# EAGLE library part LM1972M/NOPB (library Fancy_InternetRadio)
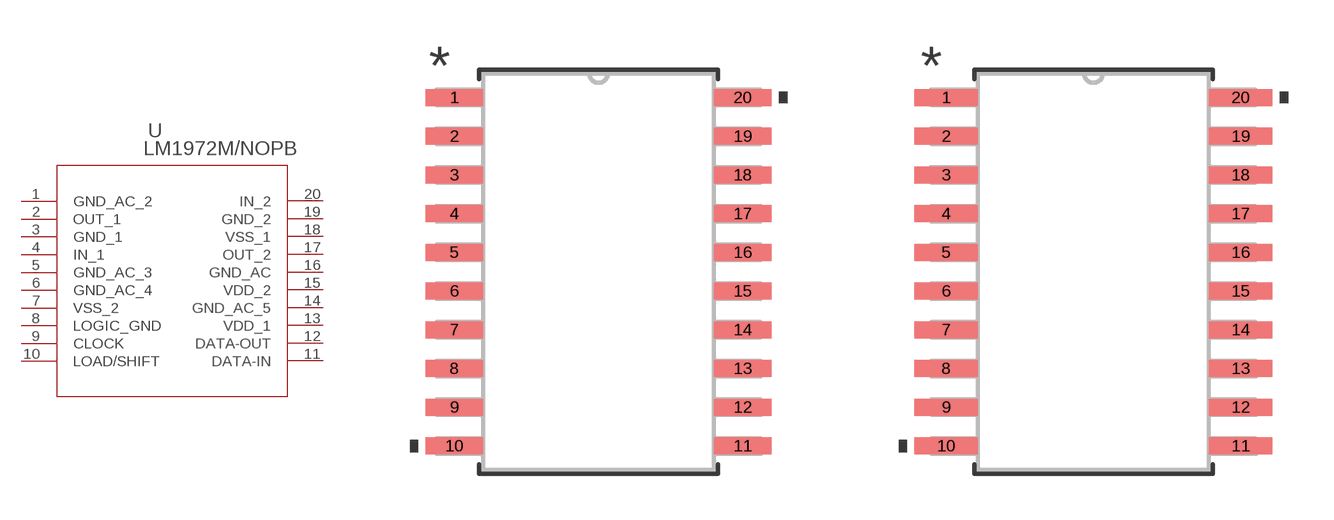
[diagram p5: symbol with the pads of M20B_TEX; footprints M20B_TEX, M20B_TEX-M]

Designator prefix U

## LM1972M/NOPB (BUILT_BY: EMA_UL_Team; MANUFACTURER_PART_NUMBER: LM1972M/NOPB; SOURCELIBRARY: National_2014-06-20; VENDOR: Texas Instruments)  [M20B_TEX]
1  GND_AC_2  pwr
2  OUT_1  out
3  GND_1  pwr
4  IN_1  in
5  GND_AC_3  pwr
6  GND_AC_4  pwr
7  VSS_2  pwr
8  LOGIC_GND  pwr
9  CLOCK  in
10  LOAD/SHIFT  in
11  DATA-IN  in
12  DATA-OUT  out
13  VDD_1  pwr
14  GND_AC_5  pwr
15  VDD_2  pwr
16  GND_AC  pwr
17  OUT_2  out
18  VSS_1  pwr
19  GND_2  pwr
20  IN_2  in

## LM1972M/NOPBM20B_TEX-M (BUILT_BY: EMA_UL_Team; MANUFACTURER_PART_NUMBER: LM1972M/NOPB; SOURCELIBRARY: National_2014-06-20; VENDOR: Texas Instruments)  [M20B_TEX-M]
Pads as for M20B_TEX

## LM1972M/NOPBM20B_TEX-L (BUILT_BY: EMA_UL_Team; MANUFACTURER_PART_NUMBER: LM1972M/NOPB; SOURCELIBRARY: National_2014-06-20; VENDOR: Texas Instruments)  [M20B_TEX-L]
Pads as for M20B_TEX

## Footprint M20B_TEX (pad centres in mm)
smd 1.887 x 0.558: 1 -4.728,5.715; 2 -4.728,4.445; 3 -4.728,3.175; 4 -4.728,1.905; 5 -4.728,0.635; 6 -4.728,-0.635; 7 -4.728,-1.905; 8 -4.728,-3.175; 9 -4.728,-4.445; 10 -4.728,-5.715; 11 4.728,-5.715; 12 4.728,-4.445; 13 4.728,-3.175; 14 4.728,-1.905; 15 4.728,-0.635; 16 4.728,0.635; 17 4.728,1.905; 18 4.728,3.175; 19 4.728,4.445; 20 4.728,5.715

## Footprint M20B_TEX-M (pad centres in mm)
smd 2.087 x 0.558: 1 -4.828,5.715; 2 -4.828,4.445; 3 -4.828,3.175; 4 -4.828,1.905; 5 -4.828,0.635; 6 -4.828,-0.635; 7 -4.828,-1.905; 8 -4.828,-3.175; 9 -4.828,-4.445; 10 -4.828,-5.715; 11 4.828,-5.715; 12 4.828,-4.445; 13 4.828,-3.175; 14 4.828,-1.905; 15 4.828,-0.635; 16 4.828,0.635; 17 4.828,1.905; 18 4.828,3.175; 19 4.828,4.445; 20 4.828,5.715

## Footprint M20B_TEX-L (pad centres in mm)
smd 1.67 x 0.508: 1 -4.636,5.715; 2 -4.636,4.445; 3 -4.636,3.175; 4 -4.636,1.905; 5 -4.636,0.635; 6 -4.636,-0.635; 7 -4.636,-1.905; 8 -4.636,-3.175; 9 -4.636,-4.445; 10 -4.636,-5.715; 11 4.636,-5.715; 12 4.636,-4.445; 13 4.636,-3.175; 14 4.636,-1.905; 15 4.636,-0.635; 16 4.636,0.635; 17 4.636,1.905; 18 4.636,3.175; 19 4.636,4.445; 20 4.636,5.715